# Altium footprint library Footprint_lib.PcbLib: 8 footprints
Each footprint in its own frame and in the unit in brackets; x right, y up, seen from the top. Pads: shape width x height; smd on the part's side, far side on the other; paste and mask are expansions set on the pad; w line width, h text height; cw(c..) or ccw(c..) is an arc to the next point about the centre after c.
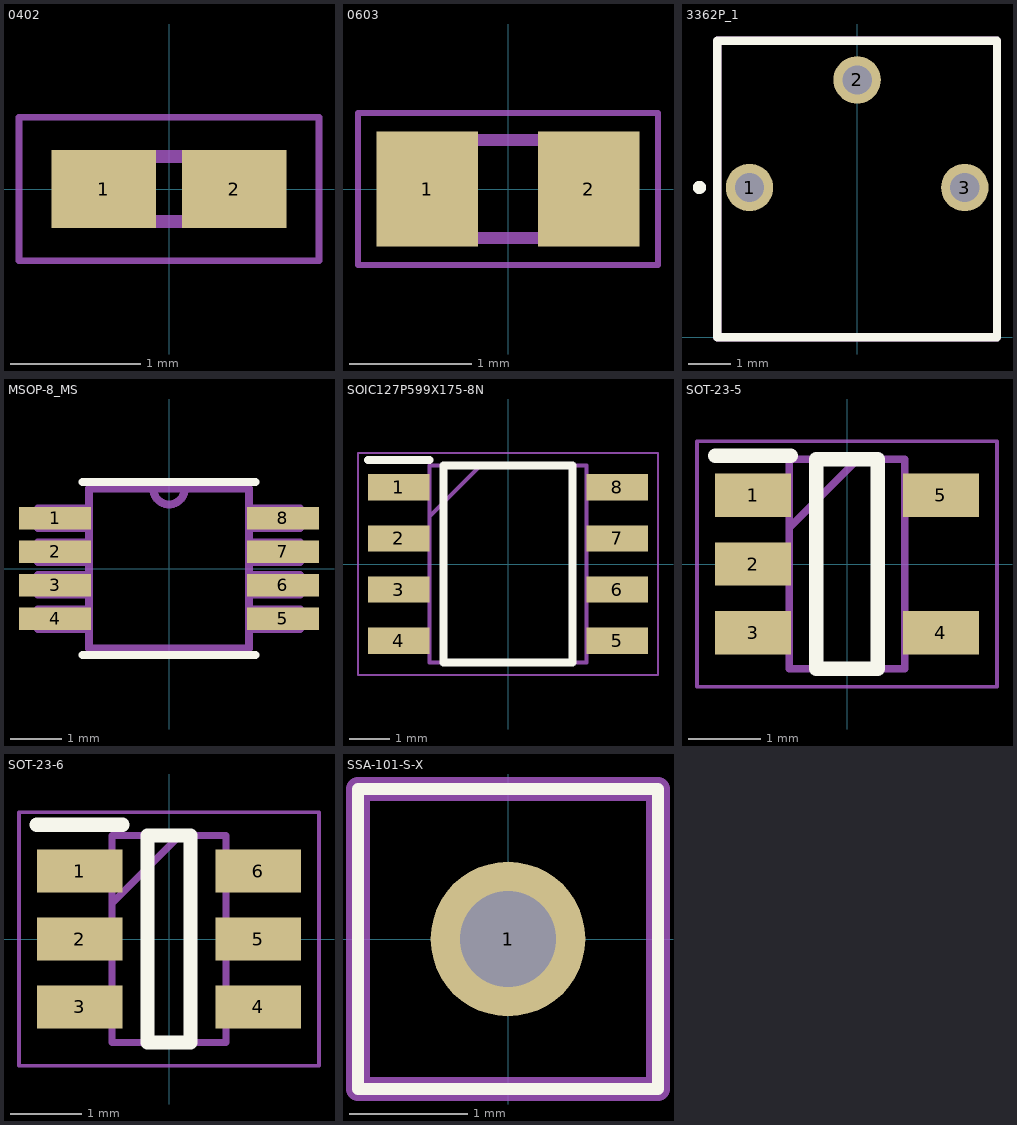
[diagram p0: the footprints below, top view; thin cyan lines are the x and y axes]

## 0402 [mm]
pads (2):
  rect 0.8x0.6 smd: 1(-0.5,0) 2(0.5,0)
Mechanical 13:
  lines w0.1: -0.5,-0.25 0.5,-0.25 0.5,0.25 -0.5,0.25 -0.5,-0.25
Mechanical 15:
  lines w0.05: -1.15,-0.55 1.15,-0.55 1.15,0.55 -1.15,0.55 -1.15,-0.55
3D body "TLRZ1ETTB.stp": height 0.35, standoff 0, extent -0.5,-0.25 0.5,0.25

## 0603 [mm]
pads (2):
  rect 0.83x0.94 smd: 1(-0.66,0) 2(0.66,0)
Mechanical 13:
  lines w0.1: -0.8,-0.4 -0.8,0.4 0.8,0.4 0.8,-0.4 -0.8,-0.4
Mechanical 15:
  lines w0.05: -1.225,-0.62 -1.225,0.62 1.225,0.62 1.225,-0.62 -1.225,-0.62
3D body "CC0603KRX5R8BB105.stp": height 0.9, standoff 0, extent -0.8,-0.4 0.8,0.4

## 3362P_1 [mm]
pads (3):
  round 1.12 hole 0.69: 1(-2.54,3.53) 2(0,6.07) 3(2.54,3.53)
Top Overlay:
  circle w0.2: c-3.722,3.532 r0.057
  lines w0.2: -3.3,0 -3.3,6.99 3.3,6.99 3.3,0 -3.3,0
Mechanical 13:
  lines w0.2: -3.3,0 3.3,0 3.3,6.99 -3.3,6.99 -3.3,0
3D body "3362P-1-303LF.stp": height 4.75, standoff -4.75, extent -3.3,-0.04 3.3,6.95

## MSOP-8_MS [mil]
pads (8):
  rect 55x17 smd mask+4.53: 1(-87,38.39) 2(-87,12.8) 3(-87,-12.8) 4(-87,-38.39) 5(87,-38.39) 6(87,-12.8) 7(87,12.8) 8(87,38.39)
Top Overlay:
  lines w6: -66,-66 66,-66 ; -66,66 66,66
Mechanical 13:
  lines w6: -12,61 ccw(c0,61) 12,61 ; -12,61 12,61 ; -12,61 -61,61 -61,-61 61,-61 61,61 12,61 ; -100,-46 -100,-31 -61,-31 -61,-46 -100,-46 ; -100,-20 -100,-5 -61,-5 -61,-20 -100,-20 ; -100,5 -100,20 -61,20 -61,5 -100,5 ; -100,31 -100,46 -61,46 -61,31 -100,31 ; 61,-46 61,-31 100,-31 100,-46 61,-46 ; 61,-20 61,-5 100,-5 100,-20 61,-20 ; 61,5 61,20 100,20 100,5 61,5 ; 61,31 61,46 100,46 100,31 61,31
3D body "step_temp.STEP": height 43.31, standoff 0, extent -96.45,-59.05 96.46,59.06

## SOIC127P599X175-8N [mm]
pads (8):
  rect 1.526x0.65 smd: 1(-2.712,1.905) 2(-2.712,0.635) 3(-2.712,-0.635) 4(-2.712,-1.905) 5(2.712,-1.905) 6(2.712,-0.635) 7(2.712,0.635) 8(2.712,1.905)
Top Overlay:
  lines w0.2: -3.475,2.58 -1.95,2.58 ; -1.6,-2.451 -1.6,2.451 1.6,2.451 1.6,-2.451 -1.6,-2.451
Mechanical 13:
  lines w0.1: -1.95,1.181 -0.68,2.451 ; -1.95,-2.451 -1.95,2.451 1.95,2.451 1.95,-2.451 -1.95,-2.451
Mechanical 15:
  lines w0.05: -3.725,-2.752 -3.725,2.752 3.725,2.752 3.725,-2.752 -3.725,-2.752
3D body "LTC6268IS8#PBF.stp": height 1.75, standoff 0, extent -2.997,-2.451 2.997,2.451

## SOT-23-5 [mm]
pads (5):
  rect 1.05x0.6 smd: 1(-1.3,0.95) 2(-1.3,0) 3(-1.3,-0.95) 4(1.3,-0.95) 5(1.3,0.95)
Top Overlay:
  lines w0.2: -1.825,1.5 -0.775,1.5 ; -0.425,-1.45 -0.425,1.45 0.425,1.45 0.425,-1.45 -0.425,-1.45
Mechanical 13:
  lines w0.1: -0.8,0.5 0.15,1.45 ; -0.8,-1.45 -0.8,1.45 0.8,1.45 0.8,-1.45 -0.8,-1.45
Mechanical 15:
  lines w0.05: -2.075,-1.7 -2.075,1.7 2.075,1.7 2.075,-1.7 -2.075,-1.7
3D body "MIC5317-3.3YM5-TR.stp": height 1, standoff 0, extent -1.4,-1.45 1.4,1.45

## SOT-23-6 [mm]
pads (6):
  rect 1.2x0.6 smd: 1(-1.25,0.95) 2(-1.25,0) 3(-1.25,-0.95) 4(1.25,-0.95) 5(1.25,0) 6(1.25,0.95)
Top Overlay:
  lines w0.2: -1.85,1.6 -0.65,1.6 ; -0.3,-1.45 -0.3,1.45 0.3,1.45 0.3,-1.45 -0.3,-1.45
Mechanical 13:
  lines w0.1: -0.8,0.5 0.15,1.45 ; -0.8,-1.45 -0.8,1.45 0.8,1.45 0.8,-1.45 -0.8,-1.45
Mechanical 15:
  lines w0.05: -2.1,-1.775 -2.1,1.775 2.1,1.775 2.1,-1.775 -2.1,-1.775
3D body "TS5A3160DBVR.stp": height 1.2, standoff 0, extent -1.4,-1.45 1.4,1.45

## SSA-101-S-X [mm]
pads (1):
  round 1.31 hole 0.81: 1(0,0)
Top Overlay:
  lines w0.1: -1.27,-1.27 -1.27,1.27 1.27,1.27 1.27,-1.27 -1.27,-1.27
Mechanical 13:
  lines w0.2: -1.27,-1.27 -1.27,1.27 1.27,1.27 1.27,-1.27 -1.27,-1.27
3D body "SSA-101-S-T.stp": height 5.9, standoff -3.78, extent -1.27,-1.27 1.27,1.27